# EAGLE library part RESISTOR_NET_14_50MIL (library IIT_BOMBAY_Racing)
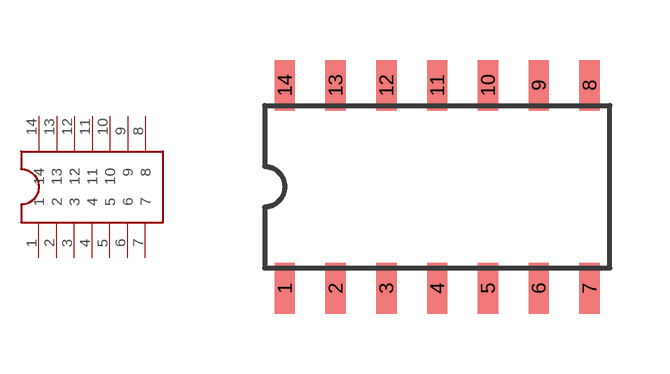
[diagram p13: symbol with the pads of 50MIL_PITCH; footprint 50MIL_PITCH]

Designator prefix -

## RESISTOR_NET_14_50MIL  [50MIL_PITCH]
1  1
2  2
3  3
4  4
5  5
6  6
7  7
8  8
9  9
10  10
11  11
12  12
13  13
14  14

## Footprint 50MIL_PITCH (pad centres in mm)
smd 0.508 x 1.27: 1 -3.556,-2.54; 2 -2.286,-2.54; 3 -1.016,-2.54; 4 0.254,-2.54; 5 1.524,-2.54; 6 2.794,-2.54; 7 4.064,-2.54; 8 4.064,2.54; 9 2.794,2.54; 10 1.524,2.54; 11 0.254,2.54; 12 -1.016,2.54; 13 -2.286,2.54; 14 -3.556,2.54